# Altium schematic symbol library TESTPOINT.SchLib: 1 symbol
Pins are listed as number, name and electrical type; pins without a type are passive.

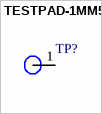
[diagram p0: symbol TESTPAD-1MM5]

## TESTPAD-1MM5
designator TP?  (no BOM)
3D model TESTPAD-1MM5 (PCB3D Model)
footprint TESTPAD-1MM5 (Test point, 1.5 mm round SMD pad (size chosen))
pins: 1 TESTPAD-1MM5